# Altium footprint library LITEON.PcbLib: 4 footprints
Each footprint in its own frame and in the unit in brackets; x right, y up, seen from the top. Pads: shape width x height; smd on the part's side, far side on the other; paste and mask are expansions set on the pad; w line width, h text height; cw(c..) or ccw(c..) is an arc to the next point about the centre after c.
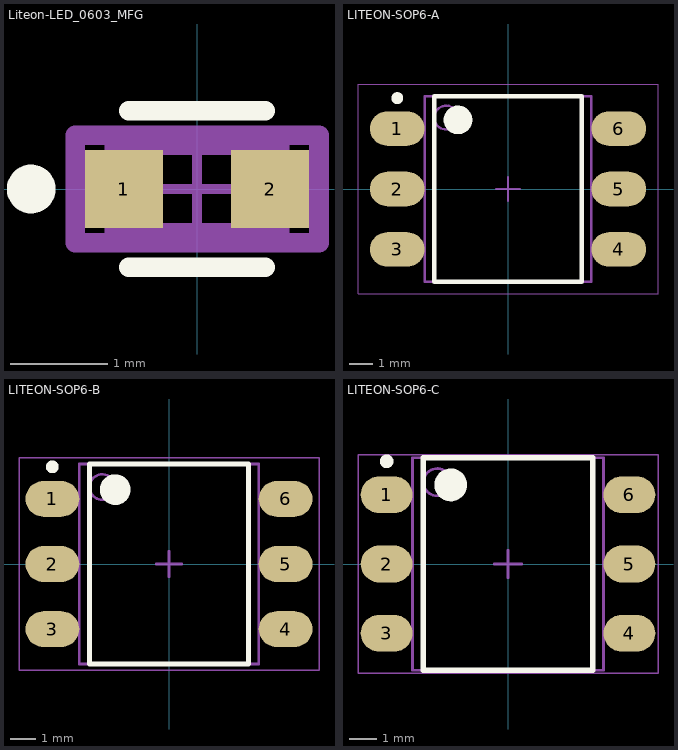
[diagram p0: the footprints below, top view; thin cyan lines are the x and y axes]

## Liteon-LED_0603_MFG [mm]
pads (2):
  rect 0.8x0.8 smd paste+0 mask+0: 1(-0.75,0) 2(0.75,0)
Top Overlay:
  circle w0.25: c-1.7,0 r0.125
  lines w0.2: -0.7,-0.8 0.7,-0.8 ; -0.7,0.8 0.7,0.8
Mechanical 10:
  lines w0.2: -1.25,-0.55 1.25,-0.55 1.25,0.55 -1.25,0.55 -1.25,-0.55
  text ".Designator" at 0,-0.001 h1
Mechanical 12:
  lines w0.2: -0.85,-0.45 0.85,-0.45 0.85,0.45 -0.85,0.45 -0.85,-0.45
Mechanical 15:
  lines w0.1: -0.5,0 0.5,0 ; 0,-0.5 0,0.5
  lines w0.2: -1.25,-0.55 1.25,-0.55 1.25,0.55 -1.25,0.55 -1.25,-0.55
3D body "Diode_Lite-On_LTST-C191KRKT_eec.STEP": height 0.25, standoff 0, extent -1.25,-0.55 1.25,0.55

## LITEON-SOP6-A [mm] "SOP, 6-Leads, Body 7.30x6.50mm, Pitch 2.54mm, IPC Low Density"
height 4.6
pads (6):
  oval 2.3x1.45 smd: 1(-4.65,2.54) 2(-4.65,0) 3(-4.65,-2.54) 4(4.65,-2.54) 5(4.65,0) 6(4.65,2.54)
Top Overlay:
  circle w0.25: c-4.65,3.815 r0.125
  circle w0.6: c-2.1,2.9 r0.3
  lines w0.2: -3.1,-3.9 -3.1,3.9 3.1,3.9 3.1,-3.9 -3.1,-3.9
Mechanical 13:
  circle w0.1: c-2.6,3 r0.5
  lines w0.1: -3.5,-3.9 -3.5,3.9 3.5,3.9 3.5,-3.9 -3.5,-3.9
Mechanical 15:
  lines w0.05: -6.3,-4.4 -6.3,4.4 6.3,4.4 6.3,-4.4 -6.3,-4.4
  lines w0.1: -0.5,0 0.5,0 ; 0,-0.5 0,0.5
3D body "LITEON-SOP6-A.step": height 4.6, standoff 0, extent -5.08,-3.9 5.08,3.9

## LITEON-SOP6-B [mm] "SOP, 6-Leads, Body 7.30x6.50mm, Pitch 2.54mm, IPC Medium Density"
height 4.6
pads (6):
  oval 2.1x1.4 smd: 1(-4.55,2.54) 2(-4.55,0) 3(-4.55,-2.54) 4(4.55,-2.54) 5(4.55,0) 6(4.55,2.54)
Top Overlay:
  circle w0.6: c-2.1,2.9 r0.3
  circle w0.25: c-4.55,3.79 r0.125
  lines w0.2: -3.1,-3.9 3.1,-3.9 3.1,3.9 -3.1,3.9 -3.1,-3.9
Mechanical 13:
  circle w0.1: c-2.6,3 r0.5
  lines w0.1: -3.5,-3.9 3.5,-3.9 3.5,3.9 -3.5,3.9 -3.5,-3.9
Mechanical 15:
  lines w0.05: -5.85,-4.15 5.85,-4.15 5.85,4.15 -5.85,4.15 -5.85,-4.15
  lines w0.1: -0.5,0 0.5,0 ; 0,-0.5 0,0.5
3D body "LITEON-SOP6-B.step": height 4.6, standoff 0, extent -5.08,-3.9 5.08,3.9

## LITEON-SOP6-C [mm] "SOP, 6-Leads, Body 7.30x6.50mm, Pitch 2.54mm, IPC High Density"
height 4.6
pads (6):
  oval 1.9x1.35 smd: 1(-4.45,2.54) 2(-4.45,0) 3(-4.45,-2.54) 4(4.45,-2.54) 5(4.45,0) 6(4.45,2.54)
Top Overlay:
  circle w0.6: c-2.1,2.9 r0.3
  circle w0.25: c-4.45,3.765 r0.125
  lines w0.2: -3.1,-3.9 3.1,-3.9 3.1,3.9 -3.1,3.9 -3.1,-3.9
Mechanical 13:
  circle w0.1: c-2.6,3 r0.5
  lines w0.1: -3.5,-3.9 3.5,-3.9 3.5,3.9 -3.5,3.9 -3.5,-3.9
Mechanical 15:
  lines w0.05: -5.5,-4 5.5,-4 5.5,4 -5.5,4 -5.5,-4
  lines w0.1: -0.5,0 0.5,0 ; 0,-0.5 0,0.5
3D body "LITEON-SOP6-C.step": height 4.6, standoff 0, extent -5.08,-3.9 5.08,3.9